# Altium footprint library InfoDisplayLibrary.PcbLib: 18 footprints (part 1 of 2)
Each footprint in its own frame and in the unit in brackets; x right, y up, seen from the top. Pads: shape width x height; smd on the part's side, far side on the other; paste and mask are expansions set on the pad; w line width, h text height; cw(c..) or ccw(c..) is an arc to the next point about the centre after c.
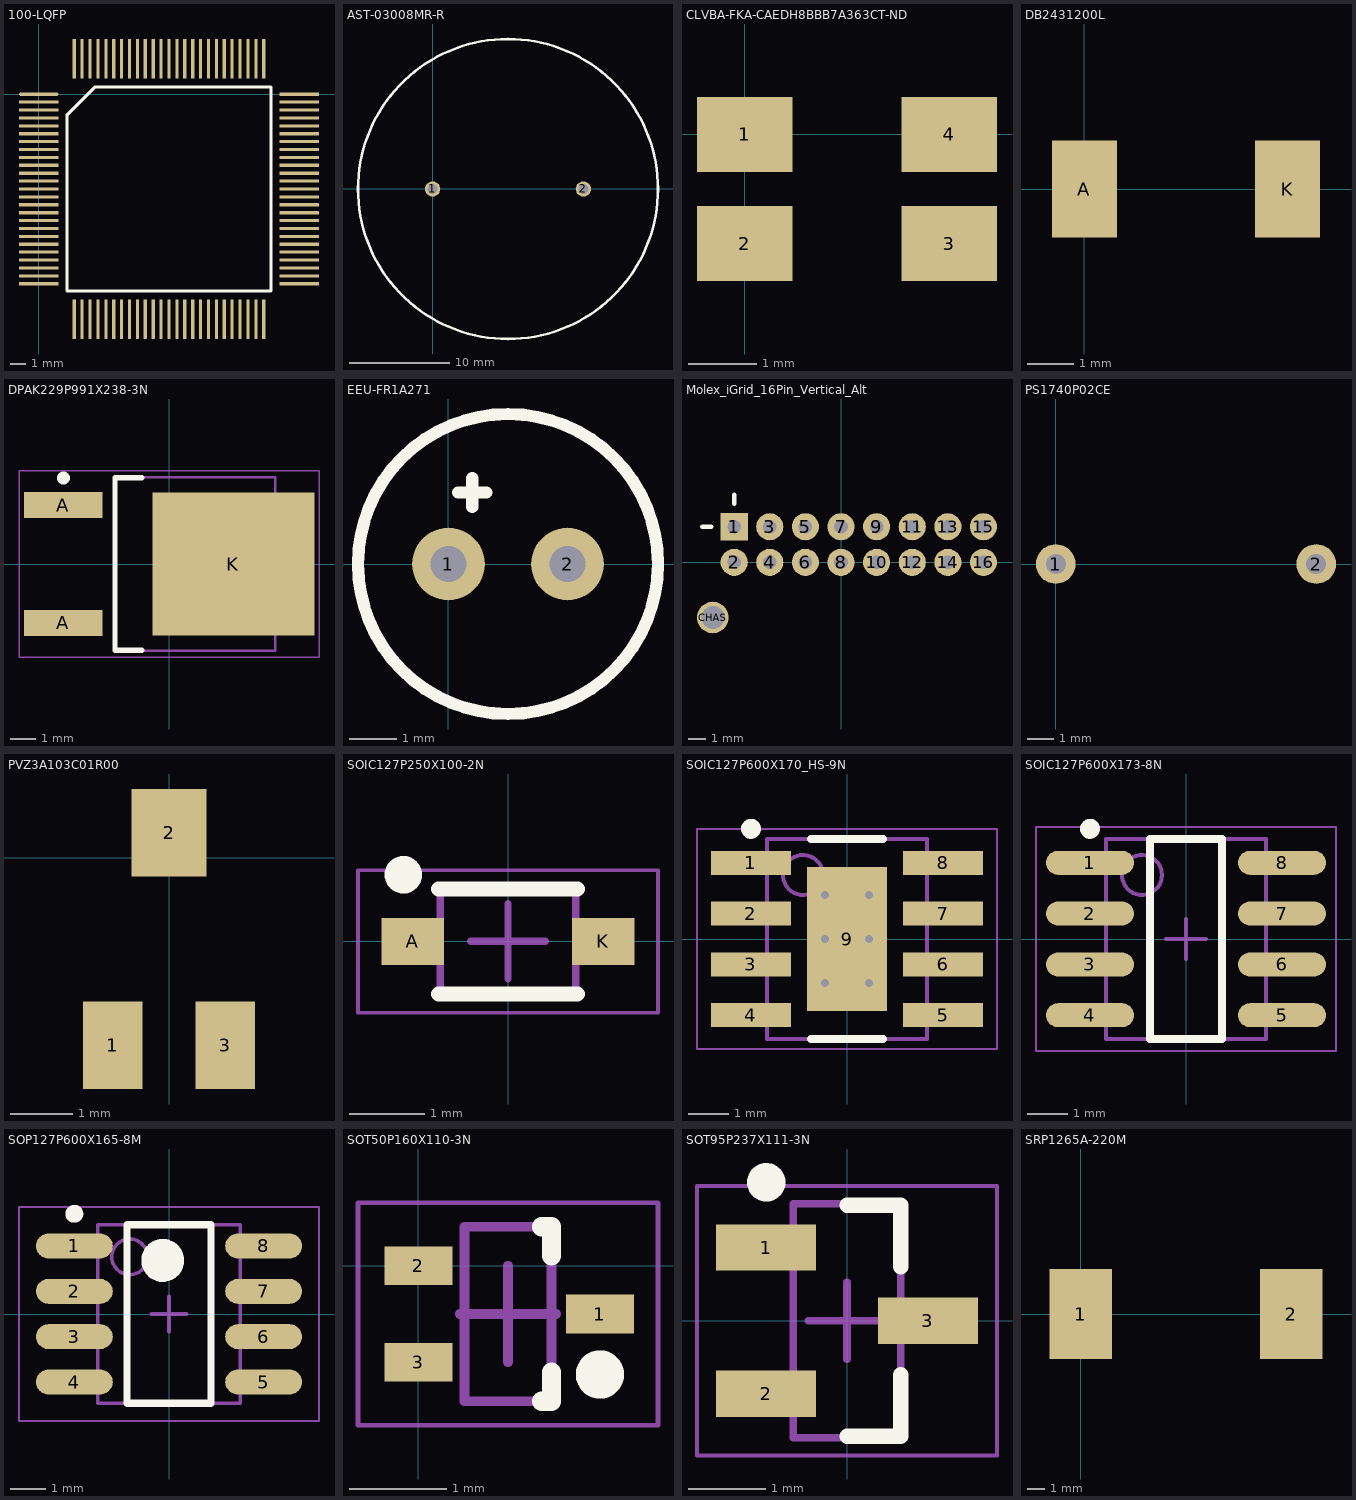
[diagram p0: the footprints below, top view; thin cyan lines are the x and y axes]

## 100-LQFP [mm] "Atmel SAM 3X8CA-AU"
height 1.6
pads (100):
  oval 2.5x0.2 smd: 1(0,0)
  rect 2.5x0.2 smd: 2(0,-0.5) 3(0,-1) 4(0,-1.5) 5(0,-2) 6(0,-2.5) 7(0,-3) 8(0,-3.5) 9(0,-4) 10(0,-4.5) 11(0,-5) 12(0,-5.5) 13(0,-6) 14(0,-6.5) 15(0,-7) 16(0,-7.5) 17(0,-8) 18(0,-8.5) 19(0,-9) 20(0,-9.5) 21(0,-10) 22(0,-10.5) 23(0,-11) 24(0,-11.5) 25(0,-12) 51(16.5,-12) 52(16.5,-11.5) 53(16.5,-11) 54(16.5,-10.5) 55(16.5,-10) 56(16.5,-9.5) 57(16.5,-9) 58(16.5,-8.5) 59(16.5,-8) 60(16.5,-7.5) 61(16.5,-7) 62(16.5,-6.5) 63(16.5,-6) 64(16.5,-5.5) 65(16.5,-5) 66(16.5,-4.5) 67(16.5,-4) 68(16.5,-3.5) 69(16.5,-3) 70(16.5,-2.5) 71(16.5,-2) 72(16.5,-1.5) 73(16.5,-1) 74(16.5,-0.5) 75(16.5,0)
  rect 0.2x2.5 smd: 26(2.25,-14.25) 27(2.75,-14.25) 28(3.25,-14.25) 29(3.75,-14.25) 30(4.25,-14.25) 31(4.75,-14.25) 32(5.25,-14.25) 33(5.75,-14.25) 34(6.25,-14.25) 35(6.75,-14.25) 36(7.25,-14.25) 37(7.75,-14.25) 38(8.25,-14.25) 39(8.75,-14.25) 40(9.25,-14.25) 41(9.75,-14.25) 42(10.25,-14.25) 43(10.75,-14.25) 44(11.25,-14.25) 45(11.75,-14.25) 46(12.25,-14.25) 47(12.75,-14.25) 48(13.25,-14.25) 49(13.75,-14.25) 50(14.25,-14.25) 76(14.25,2.25) 77(13.75,2.25) 78(13.25,2.25) 79(12.75,2.25) 80(12.25,2.25) 81(11.75,2.25) 82(11.25,2.25) 83(10.75,2.25) 84(10.25,2.25) 85(9.75,2.25) 86(9.25,2.25) 87(8.75,2.25) 88(8.25,2.25) 89(7.75,2.25) 90(7.25,2.25) 91(6.75,2.25) 92(6.25,2.25) 93(5.75,2.25) 94(5.25,2.25) 95(4.75,2.25) 96(4.25,2.25) 97(3.75,2.25) 98(3.25,2.25) 99(2.75,2.25) 100(2.25,2.25)
Top Overlay:
  lines w0.2: 1.785,-12.465 14.715,-12.465 14.715,0.465 3.57,0.465 1.785,-1.32 1.785,-12.465
3D body: height 1.6, standoff 0.15, extent 1.397,-12.954 15.113,0.889

## AST-03008MR-R [mil] "PUI 0.15W Speaker"
pads (2):
  round 60 hole 39.37: 1(0,0) 2(590.55,0)
Top Overlay:
  circle w10: c295.27,0 r587.61
3D body: height 492.13, standoff 39.37, extent -287.68,-586.43 882.88,586.45

## CLVBA-FKA-CAEDH8BBB7A363CT-ND [mm] "3 Colour LED"
height 2.1
pads (4):
  rect 1.4x1.1 smd: 1(0,0) 2(0,-1.6) 3(3,-1.6) 4(3,0)
3D body: height 2.1, standoff 0, extent -0.127,-2.413 3.175,0.762

## DB2431200L [mm] "DIODE SCHOTTKY 30V 5A TMINIP2"
height 0.9
pads (2):
  rect 1.4x2.1 smd: A(0,0) K(4.4,0)
3D body: height 0.9, standoff 0, extent -0.254,-1.651 4.699,1.651

## DPAK229P991X238-3N [mm] "D-PAK, 3-Pads, Body 6.21x6.73mm (max), IPC Medium Density"
height 2.38
pads (3):
  rect 3.05x1 smd: A(-4.1,-2.29) A(-4.1,2.29)
  rect 6.3x5.55 smd: K(2.5,0)
Top Overlay:
  circle w0.25: c-4.1,3.34 r0.125
  lines w0.2: -1.05,-3.35 -2.1,-3.35 -2.1,3.35 -1.05,3.35
Mechanical 13:
  lines w0.1: -2.1,-3.375 4.12,-3.375 4.12,3.375 -2.1,3.375 -2.1,-3.375
Mechanical 15:
  lines w0.05: -5.825,-3.625 5.825,-3.625 5.825,3.625 -5.825,3.625 -5.825,-3.625
  lines w0.1: -0.5,0 0.5,0 ; 0,-0.5 0,0.5
3D body: height 2.38, standoff 0.13, extent -2.1,-3.375 4.12,3.375

## EEU-FR1A271 [mil] "Panasonic 270uF Capacitor, Radial"
height 500
pads (2):
  round 60 hole 30: 1(0,0) 2(98.43,0)
Top Overlay:
  circle w10: c49.21,0 r124.02
  lines w10: 7.87,59.06 31.5,59.06 ; 19.68,47.24 19.68,70.87
3D body: height 503.94, standoff 3.94, extent -71.85,-127.7 175.2,119.84

## Molex_iGrid_16Pin_Vertical_Alt [mil] "2.00mm Pitch iGrid™ Wire-to-Board Header, Dual Row, Vertical, with PCB Locator, 16 Circuits, Lead-Free"
pads (17):
  rect 60x60 hole 30: 1(-236.22,78.74)
  round 60 hole 30: 2(-236.22,0) 3(-157.48,78.74) 4(-157.48,0) 5(-78.74,78.74) 6(-78.74,0) 7(0,78.74) 8(0,0) 9(78.74,78.74) 10(78.74,0) 11(157.48,78.74) 12(157.48,0) 13(236.22,78.74) 14(236.22,0) 15(314.96,78.74) 16(314.96,0)
  round 70 hole 51.18: CHAS(-283.46,-122.05)
Top Overlay:
  lines w10: -307.09,78.74 -287.4,78.74 ; -236.22,129.92 -236.22,149.61
3D body: height 482.28, standoff -116.14, extent -315,-161.42 393.66,161.42

## PS1740P02CE [mil] "3V Piezo Buzzer"
pads (2):
  round 60 hole 30: 1(0,0) 2(393.7,0)
3D body: height 200.79, standoff 19.68, extent -135.15,-333.98 531.5,333.99

## PVZ3A103C01R00 [mm] "Murata 10k Trimmer, 1 Turn"
pads (3):
  rect 0.95x1.4 smd: 1(-0.9,-3) 3(0.9,-3)
  rect 1.2x1.4 smd: 2(0,0.4)
3D body: height 1.86, standoff 0.1, extent -1.55,-3.2 1.55,0.4

## SOIC127P250X100-2N [mm] "SOIC, 2-Leads, Body 1.25x1.70mm, Pitch 1.27mm, IPC Medium Density"
height 1
pads (2):
  rect 0.83x0.63 smd: A(-1.27,0) K(1.27,0)
Top Overlay:
  circle w0.25: c-1.397,0.889 r0.125
  lines w0.2: -0.925,-0.7 0.925,-0.7 ; -0.925,0.7 0.925,0.7
Mechanical 13:
  lines w0.1: -0.9,-0.7 -0.9,0.7 0.9,0.7 0.9,-0.7 -0.9,-0.7
Mechanical 15:
  lines w0.05: -2,-0.95 -2,0.95 2,0.95 2,-0.95 -2,-0.95
  lines w0.1: -0.5,0 0.5,0 ; 0,-0.5 0,0.5
3D body: height 1, standoff 0, extent -0.9,-0.7 0.9,0.7

## SOIC127P600X170_HS-9N [mm] "SOIC, 8-Leads, Body 4.90x3.90mm, Pitch 1.27mm, Thermal Pad 3.60.2x2.00.2mm, IPC Medium Density"
height 1.7
pads (9):
  rect 2x0.6 smd: 1(-2.4,1.905) 2(-2.4,0.635) 3(-2.4,-0.635) 4(-2.4,-1.905) 5(2.4,-1.905) 6(2.4,-0.635) 7(2.4,0.635) 8(2.4,1.905)
  rect 2x3.6 smd: 9(0,0)
via 0.55,-1.1 diameter 0.5 hole 0.2
via -0.55,-1.1 diameter 0.5 hole 0.2
via 0.55,0 diameter 0.5 hole 0.2
via -0.55,0 diameter 0.5 hole 0.2
via 0.55,1.1 diameter 0.5 hole 0.2
via -0.55,1.1 diameter 0.5 hole 0.2
Top Overlay:
  circle w0.25: c-2.4,2.755 r0.125
  lines w0.2: -0.9,-2.5 0.9,-2.5 ; -0.9,2.5 0.9,2.5
Mechanical 13:
  circle w0.1: c-1.1,1.6 r0.5
  lines w0.1: -2,-2.5 2,-2.5 2,2.5 -2,2.5 -2,-2.5
Mechanical 15:
  lines w0.05: -3.75,-2.75 3.75,-2.75 3.75,2.75 -3.75,2.75 -3.75,-2.75
  lines w0.1: -0.5,0 0.5,0 ; 0,-0.5 0,0.5
3D body: height 1.7, standoff 0, extent -2,-2.5 2,2.5

## SOIC127P600X173-8N [mm] "SOIC, 8-Leads, Body 4.90x3.90mm, Pitch 1.27mm, IPC Medium Density"
height 1.74
pads (8):
  oval 2.2x0.6 smd: 1(-2.4,1.905) 2(-2.4,0.635) 3(-2.4,-0.635) 4(-2.4,-1.905) 5(2.4,-1.905) 6(2.4,-0.635) 7(2.4,0.635) 8(2.4,1.905)
Top Overlay:
  circle w0.25: c-2.4,2.755 r0.125
  lines w0.2: -0.9,-2.5 -0.9,2.5 0.9,2.5 0.9,-2.5 -0.9,-2.5
Mechanical 13:
  circle w0.1: c-1.1,1.6 r0.5
  lines w0.1: -2,-2.5 -2,2.5 2,2.5 2,-2.5 -2,-2.5
Mechanical 15:
  lines w0.05: -3.75,-2.8 -3.75,2.8 3.75,2.8 3.75,-2.8 -3.75,-2.8
  lines w0.1: -0.5,0 0.5,0 ; 0,-0.5 0,0.5
3D body: height 1.74, standoff 0.36, extent -2,-2.5 2,2.5

## SOP127P600X165-8M [mm] "SOP, 8-Leads, Body 4.90x3.90mm, Pitch 1.27mm, IPC Low Density"
height 1.65
pads (8):
  oval 2.15x0.7 smd: 1(-2.65,1.905) 2(-2.65,0.635) 3(-2.65,-0.635) 4(-2.65,-1.905) 5(2.65,-1.905) 6(2.65,-0.635) 7(2.65,0.635) 8(2.65,1.905)
Top Overlay:
  circle w0.25: c-2.65,2.805 r0.125
  circle w0.6: c-0.175,1.5 r0.3
  lines w0.2: -1.175,-2.5 -1.175,2.5 1.175,2.5 1.175,-2.5 -1.175,-2.5
Mechanical 13:
  circle w0.1: c-1.1,1.6 r0.5
  lines w0.1: -2,-2.5 -2,2.5 2,2.5 2,-2.5 -2,-2.5
Mechanical 15:
  lines w0.05: -4.2,-3 -4.2,3 4.2,3 4.2,-3 -4.2,-3
  lines w0.1: -0.5,0 0.5,0 ; 0,-0.5 0,0.5
3D body: height 1.65, standoff 0.1, extent -2,-2.5 2,2.5

## SOT50P160X110-3N [mm] "SOT23, 3-Leads, Body 1.60x1.60mm, Pitch 0.50mm, IPC Medium Density"
height 1.1
pads (3):
  rect 0.7x0.4 smd: 1(1.875,-0.5) 2(0,0)
  rect 0.7x0.4 smd paste+0: 3(0,-1)
Top Overlay:
  circle w0.25: c1.875,-1.125 r0.125
  lines w0.2: 1.275,-1.4 1.375,-1.4 1.375,-1.1 ; 1.275,0.4 1.375,0.4 1.375,0.1
Mechanical 13:
  lines w0.1: 0.475,-1.4 1.375,-1.4 1.375,0.4 0.475,0.4 0.475,-1.4
Mechanical 15:
  lines w0.05: -0.625,-1.65 2.475,-1.65 2.475,0.65 -0.625,0.65 -0.625,-1.65
  lines w0.1: 0.425,-0.5 1.425,-0.5 ; 0.925,-1 0.925,0
3D body: height 1.1, standoff 0.05, extent 0.475,-1.4 1.375,0.4

## SOT95P237X111-3N [mm] "SOT23, 3-Leads, Body 2.92x2.37mm, Pitch 0.95mm, IPC Medium Density"
height 1.11
pads (3):
  rect 1.3x0.6 smd: 1(-1.05,0.95) 2(-1.05,-0.95) 3(1.05,0)
Top Overlay:
  circle w0.25: c-1.05,1.8 r0.125
  lines w0.2: 0,-1.5 0.7,-1.5 0.7,-0.7 ; 0,1.5 0.7,1.5 0.7,0.7
Mechanical 13:
  lines w0.1: -0.7,-1.52 -0.7,1.52 0.7,1.52 0.7,-1.52 -0.7,-1.52
Mechanical 15:
  lines w0.05: -1.95,-1.75 -1.95,1.75 1.95,1.75 1.95,-1.75 -1.95,-1.75
  lines w0.1: -0.5,0 0.5,0 ; 0,-0.5 0,0.5
3D body: height 1.11, standoff 0.01, extent -0.7,-1.52 0.7,1.52

## SRP1265A-220M [mm] "Bourns 22uH Inductor"
height 6.4
pads (2):
  rect 3.5x5 smd: 1(0,0) 2(11.75,0)
3D body: height 6.2, standoff 0, extent -1.016,-6.35 12.7,6.35